# Altium schematic symbol library mechanical.SchLib: 4 symbols
Pins are listed as number, name and electrical type; pins without a type are passive.

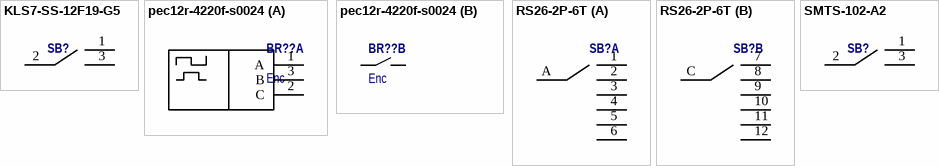
[diagram p0: symbols KLS7-SS-12F19-G5 to SMTS-102-A2]

## KLS7-SS-12F19-G5
designator SB?
def.commrnt: KLS7-SS-12F19-G5; name: KLS7-SS-12F19-G5; type: Тумблер
footprint KLS7-SS
pins: 1, 2, 3

## pec12r-4220f-s0024
designator BR??, comment Enc
Encoder; def.commrnt: pec12r-4220f-s0024A; name: pec12r-4220f-s0024A; type: Энкодер
footprint PEC12R
part A pins: 1 A, 2 C, 3 B
part B pins: 4, 5

## RS26-2P-6T
designator SB?  (value not drawn)
def.commrnt: RS26-2P-6TA; name: RS26-2P-6TA; type: Галетный переключатель
footprint RS26-2P-6T
part A pins: 1, 2, 3, 4, 5, 6, A
part B pins: 7, 8, 9, 10, 11, 12, C

## SMTS-102-A2
designator SB?
def.commrnt: SMTS-102-A2; name: SMTS-102-A2; type: Тумблер
footprint SMTS-102-A2
pins: 1, 2, 3